# EAGLE library part 5013310807 (library sbrio_backplane)
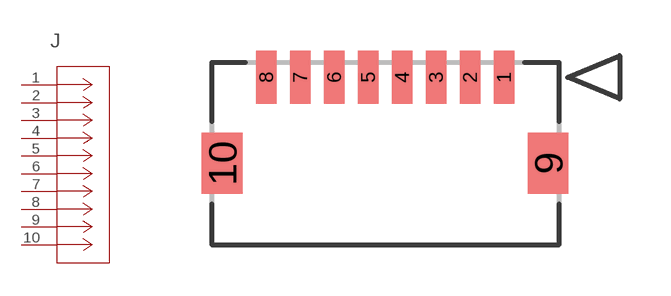
[diagram p0: symbol with the pads of CON_5013310807; footprint CON_5013310807]

Designator prefix J

## 5013310807 (COPYRIGHT: Copyright (C) 2022 Ultra Librarian. All rights reserved.; DIGI-KEY_PART_NUMBER_1: 23-5013310807TR-ND; DIGI-KEY_PART_NUMBER_2: WM7885CT-ND; DIGI-KEY_PART_NUMBER_3: WM7885DKR-ND; MANUFACTURER_PART_NUMBER: 5013310807; MFR_NAME: Molex Connector Corporation)  [CON_5013310807]
1  1  pas
2  2  pas
3  3  pas
4  4  pas
5  5  pas
6  6  pas
7  7  pas
8  8  pas
9  9  pas
10  10  pas

## Footprint CON_5013310807 (pad centres in mm)
smd 0.6 x 1.55: 1 0,0; 2 -1,0; 3 -2,0; 4 -3,0; 5 -4,0; 6 -5,0; 7 -6,0; 8 -7,0
smd 1.2 x 1.8: 9 1.3,-2.525; 10 -8.3,-2.525